# Altium integrated library C-MAC Crystal Oscillator.IntLib: 15 symbols
Pins are listed as number, name and electrical type; pins without a type are passive.

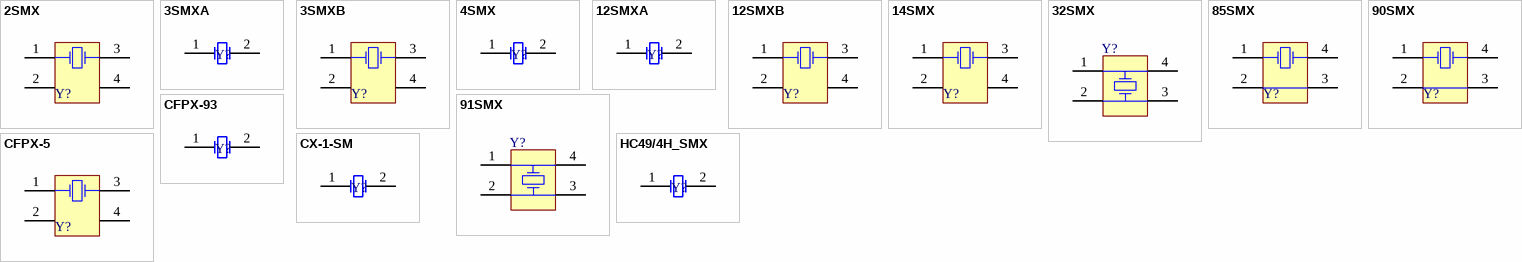
[diagram p0: symbols 2SMX to HC49/4H_SMX]

## 2SMX
designator Y?
Surface Mount Quartz Crystal; Note: PCB layout complies with manufacturer's recommendation.; Published: 17-Jul-2002; DatasheetDocument: 9-Sep-1999; PackageDocument: 9-Sep-1999; PackageReference: 2SMX; Publisher: Altium Limited; ComponentLink1Description: Manufacturer Link; ComponentLink1URL: http://www.cmac.com/mt/
footprint 2SMX (Surface Mount Quartz Crystal; Body 6.0 x 3.5 mm (LxW))
pins: 1 OSC1, 2 NC, 3 OSC2, 4 NC

## 3SMXA
designator Y?
Surface Mount Quartz Crystal; Note: PCB layout complies with manufacturer's recommendation.; Published: 17-Jul-2002; DatasheetDocument: 6-Apr-1998; PackageDocument: 6-Apr-1998; PackageReference: 3SMXA; Publisher: Altium Limited; ComponentLink1Description: Manufacturer Link; ComponentLink1URL: http://www.cmac.com/mt/; ComponentLink2Description: Datasheet; ComponentLink2URL: http://www.cmac.com/mt/databook/crystals/smd/3smx.pdf
footprint 3SMXA (Surface Mount Quartz Crystal; Body 6.2 x 3.7 mm (LxW max))
pins: 1 OSC1, 2 OSC2

## 3SMXB
designator Y?
Surface Mount Quartz Crystal; Note: PCB layout complies with manufacturer's recommendation.; Published: 17-Jul-2002; DatasheetDocument: 6-Apr-1998; PackageDocument: 6-Apr-1998; PackageReference: 3SMXB; Publisher: Altium Limited; ComponentLink1Description: Manufacturer Link; ComponentLink1URL: http://www.cmac.com/mt/; ComponentLink2Description: Datasheet; ComponentLink2URL: http://www.cmac.com/mt/databook/crystals/smd/3smx.pdf
footprint 3SMXB (Surface Mount Quartz Crystal; Body 6.2 x 3.7 mm (LxW max))
pins: 1 OSC1, 2 NC, 3 OSC2, 4 NC

## 4SMX
designator Y?
Surface Mount Quartz Crystal; Note: PCB layout complies with manufacturer's recommendation.; Published: 17-Jul-2002; DatasheetDocument: 9-Sep-1999; PackageDocument: 9-Sep-1999; PackageReference: 4SMX; Publisher: Altium Limited; ComponentLink1Description: Manufacturer Link; ComponentLink1URL: http://www.cmac.com/mt/
footprint 4SMX (Surface Mount Quartz Crystal; Body 5.2 x 3.4 mm (LxW max))
pins: 1 OSC1, 2 OSC2

## 12SMXA
designator Y?
Surface Mount Quartz Crystal; Note: PCB layout complies with manufacturer's recommendation.; Published: 17-Jul-2002; DatasheetDocument: 14-Jul-1998; PackageDocument: 14-Jul-1998; PackageReference: 12SMXA; Publisher: Altium Limited; ComponentLink1Description: Manufacturer Link; ComponentLink1URL: http://www.cmac.com/mt/; ComponentLink2Description: Datasheet; ComponentLink2URL: http://www.cmac.com/mt/databook/crystals/smd/12smx.pdf
footprint 12SMXA (Surface Mount Quartz Crystal; Body 7.5 x 5.1 mm (LxW max))
pins: 1 OSC1, 2 OSC2

## 12SMXB
designator Y?
Surface Mount Quartz Crystal; Note: PCB layout complies with manufacturer's recommendation.; Published: 17-Jul-2002; DatasheetDocument: 14-Jul-1998; PackageDocument: 14-Jul-1998; PackageReference: 12SMXB; Publisher: Altium Limited; ComponentLink1Description: Manufacturer Link; ComponentLink1URL: http://www.cmac.com/mt/; ComponentLink2Description: Datasheet; ComponentLink2URL: http://www.cmac.com/mt/databook/crystals/smd/12smx.pdf
footprint 12SMXB (Surface Mount Quartz Crystal; Body 7.5 x 5.1 mm (LxW max))
pins: 1 OSC1, 2 NC, 3 OSC2, 4 NC

## 14SMX
designator Y?
Surface Mount Quartz Crystal; Note: PCB layout complies with manufacturer's recommendation.; Published: 17-Jul-2002; DatasheetDocument: 9-Sep-1999; PackageDocument: 9-Sep-1999; PackageReference: 14SMX; Publisher: Altium Limited; ComponentLink1Description: Manufacturer Link; ComponentLink1URL: http://www.cmac.com/mt/; ComponentLink2Description: Datasheet; ComponentLink2URL: http://www.cmac.com/mt/databook/crystals/smd/14smx.pdf
footprint 14SMX (Surface Mount Quartz Crystal; Body 7.5 x 5.0 mm (LxW max))
pins: 1 OSC1, 2 NC, 3 OSC2, 4 NC

## 32SMX
designator Y?
Surface Mount Quartz Crystal; Note: PCB layout complies with manufacturer's recommendation.; Published: 17-Jul-2002; DatasheetDocument: 30-Jul-1999; PackageDocument: 30-Jul-1999; PackageReference: 32SMX; Publisher: Altium Limited; ComponentLink1Description: Manufacturer Link; ComponentLink1URL: http://www.cmac.com/mt/
footprint 32SMX (Surface Mount Quartz Crystal; Body 11.6 x 5.5 mm (LxW))
pins: 1 OSC1, 2 OSC2, 3 OSC2, 4 OSC1

## 85SMX
designator Y?
Surface Mount Quartz Crystal; Note: PCB layout complies with manufacturer's recommendation.; Published: 17-Jul-2002; DatasheetDocument: 7-Sep-1999; PackageDocument: 7-Sep-1999; PackageReference: 85SMX; Publisher: Altium Limited; ComponentLink1Description: Manufacturer Link; ComponentLink1URL: http://www.cmac.com/mt/; ComponentLink2Description: Datasheet; ComponentLink2URL: http://www.cmac.com/mt/databook/crystals/smd/85smx.pdf
footprint 85SMX (Surface Mount Quartz Crystal; Body 8.7 x 3.8 (inc. leads) mm (LxW))
pins: 1 OSC1, 2 COM, 3 COM, 4 OSC2

## 90SMX
designator Y?
Surface Mount Quartz Crystal; Note: PCB layout complies with manufacturer's recommendation.; Published: 17-Jul-2002; DatasheetDocument: 28-Aug-2001; PackageDocument: 28-Aug-2001; PackageReference: 90SMX; Publisher: Altium Limited; ComponentLink1Description: Manufacturer Link; ComponentLink1URL: http://www.cmac.com/mt/; ComponentLink2Description: Datasheet; ComponentLink2URL: http://www.cmac.com/mt/databook/crystals/smd/90_91_smx.pdf
footprint 90SMX (Surface Mount Quartz Crystal; Body 10.4 x 4.0 mm (LxW))
pins: 1 OSC1, 2 COM, 3 COM, 4 OSC2

## 91SMX
designator Y?
Surface Mount Quartz Crystal; Note: PCB layout complies with manufacturer's recommendation.; Published: 17-Jul-2002; DatasheetDocument: 28-Aug-2001; PackageDocument: 28-Aug-2001; PackageReference: 91SMX; Publisher: Altium Limited; ComponentLink1Description: Manufacturer Link; ComponentLink1URL: http://www.cmac.com/mt/; ComponentLink2Description: Datasheet; ComponentLink2URL: http://www.cmac.com/mt/databook/crystals/smd/90_91_smx.pdf
footprint 91SMX (Surface Mount Quartz Crystal; Body 10.4 x 4.0 mm (LxW))
pins: 1 OSC1, 2 OSC2, 3 OSC2, 4 OSC1

## CFPX-5
designator Y?
Surface Mount Quartz Crystal; Note: PCB layout complies with manufacturer's recommendation.; Published: 17-Jul-2002; DatasheetDocument: 9-Sep-1999; PackageDocument: 9-Sep-1999; PackageReference: CFPX-5; Publisher: Altium Limited; ComponentLink1Description: Manufacturer Link; ComponentLink1URL: http://www.cmac.com/mt/
footprint CFPX-5 (Surface Mount Quartz Crystal; Body 3.4 x 2.7 mm (LxW max))
pins: 1 OSC1, 2 NC, 3 OSC2, 4 NC

## CFPX-93
designator Y?
Surface Mount Quartz Crystal; Note: PCB layout complies with manufacturer's recommendation.; Published: 17-Jul-2002; DatasheetDocument: 9-Sep-1999; PackageDocument: 9-Sep-1999; PackageReference: CFPX-93; Publisher: Altium Limited; ComponentLink1Description: Manufacturer Link; ComponentLink1URL: http://www.cmac.com/mt/
footprint CFPX-93 (Surface Mount Quartz Crystal; Body 8.2 x 4.7 mm (LxW max))
pins: 1 OSC1, 2 OSC2

## CX-1-SM
designator Y?
Surface Mount Quartz Crystal; Note: PCB layout complies with manufacturer's recommendation.; Published: 17-Jul-2002; DatasheetDocument: 26-Mar-1998; PackageDocument: 26-Mar-1998; PackageReference: CX-1-SM; Publisher: Altium Limited; ComponentLink1Description: Manufacturer Link; ComponentLink1URL: http://www.cmac.com/mt/; ComponentLink2Description: Datasheet_LF; ComponentLink2URL: Http://www.cmac.com/mt/databook/crystals/smd/cx-1-smd-lf.pdf; ComponentLink3Description: Pinout Specification; ComponentLink3URL: Datasheet_HF|http://www.cmac.com/mt/databook/crystals/smd/cx-1-smd-hf.pdf
footprint CX-1-SM (Surface Mount Quartz Crystal; Body 8.1 x 3.56 mm (LxW))
pins: 1 OSC1, 2 OSC2

## HC49/4H_SMX
designator Y?
Surface Mount Quartz Crystal; Note: PCB layout complies with manufacturer's recommendation.; Published: 17-Jul-2002; DatasheetDocument: 18-Oct-1999; PackageDocument: 18-Oct-1999; PackageReference: HC49/4H_SMX; Publisher: Altium Limited; ComponentLink1Description: Manufacturer Link; ComponentLink1URL: http://www.cmac.com/mt/; ComponentLink2Description: Datasheet; ComponentLink2URL: http://www.cmac.com/mt/databook/crystals/smd/hc49_4h_smx.pdf
footprint HC49/4H_SMX (Surface Mount Quartz Crystal; Body 13.4 (inc. leads) x 4.9 mm (LxW max))
pins: 1 OSC1, 2 OSC2